# EAGLE library part FH34SRJ-6S (library hirose_FH34SRJ)
0.5mm Pitch, 1.0mm above the board Top and Top/Bottom Contact, Back-Flip Actuator Flexible Printed Circuit & Flexible Flat Cable ZIF Connectors
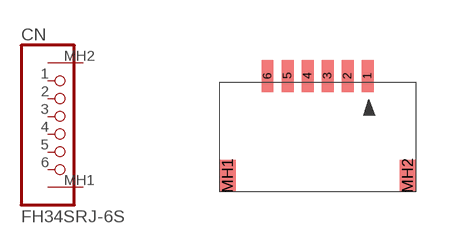
[diagram p0: symbol with the pads of FH34SRJ-6S; footprint FH34SRJ-6S]

Designator prefix CN

## FH34SRJ-6S  [FH34SRJ-6S]
1  1  pas
2  2  pas
3  3  pas
4  4  pas
5  5  pas
6  6  pas
MH1  MH1  pas
MH2  MH2  pas

## Footprint FH34SRJ-6S (pad centres in mm)
smd 0.3 x 0.8: 1 3.7,2.9; 2 3.2,2.9; 3 2.7,2.9; 4 2.2,2.9; 5 1.7,2.9; 6 1.2,2.9
smd 0.4 x 0.8: MH1 0.2,0.4; MH2 4.7,0.4